# EAGLE library part NL27WZ08USG (library Daughterboard-Stuff)
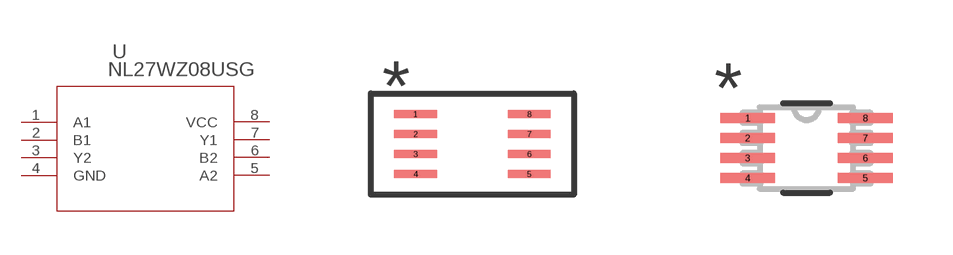
[diagram p1: symbol with the pads of US8_2P40X2P10; footprints US8_2P40X2P10, US8_2P40X2P10-M]

Designator prefix U

## NL27WZ08USG (MANUFACTURER_PART_NUMBER: NL27WZ08USG; VENDOR: ON Semiconductor)  [US8_2P40X2P10]
1  A1  in
2  B1  in
3  Y2  out
4  GND  pwr
5  A2  in
6  B2  in
7  Y1  out
8  VCC  pwr

## NL27WZ08USGUS8_2P40X2P10-M (MANUFACTURER_PART_NUMBER: NL27WZ08USG; VENDOR: ON Semiconductor)  [US8_2P40X2P10-M]
Pads as for US8_2P40X2P10

## NL27WZ08USGUS8_2P40X2P10-L (MANUFACTURER_PART_NUMBER: NL27WZ08USG; VENDOR: ON Semiconductor)  [US8_2P40X2P10-L]
Pads as for US8_2P40X2P10

## Footprint US8_2P40X2P10 (pad centres in mm)
smd 1.067 x 0.203: 1 -1.422,0.75; 2 -1.422,0.25; 3 -1.422,-0.25; 4 -1.422,-0.75; 5 1.422,-0.75; 6 1.422,-0.25; 7 1.422,0.25; 8 1.422,0.75

## Footprint US8_2P40X2P10-M (pad centres in mm)
smd 1.372 x 0.254: 1 -1.473,0.75; 2 -1.473,0.25; 3 -1.473,-0.25; 4 -1.473,-0.75; 5 1.473,-0.75; 6 1.473,-0.25; 7 1.473,0.25; 8 1.473,0.75

## Footprint US8_2P40X2P10-L (pad centres in mm)
smd 0.762 x 0.152: 1 -1.372,0.75; 2 -1.372,0.25; 3 -1.372,-0.25; 4 -1.372,-0.75; 5 1.372,-0.75; 6 1.372,-0.25; 7 1.372,0.25; 8 1.372,0.75